# EAGLE library part LORA_RN (library Eagle_CAD_parts)
Low-Power, Long Range: LoRa® Technology Transceiver Module
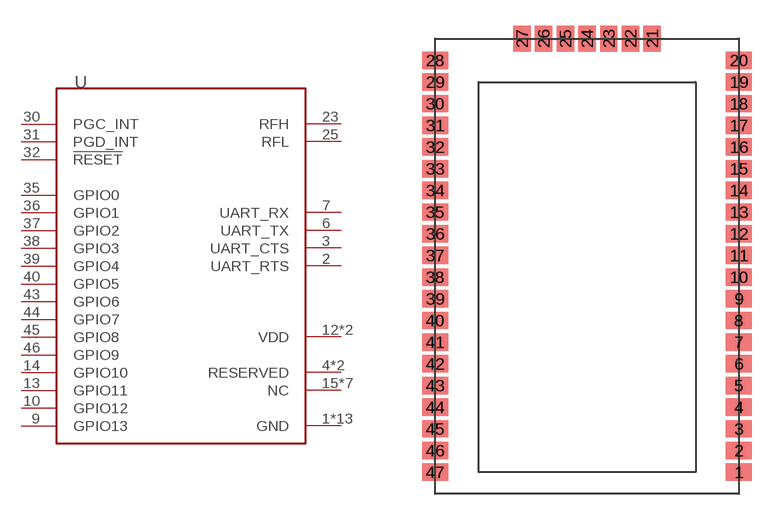
[diagram p78: symbol with the pads of RN_LORA; footprint RN_LORA]

Designator prefix U

## LORA_RN2903A-I/RM105 (DIGIKEY_PART_NUMBER: RN2903A-I/RM105-ND; FREQ: 902MHz~928MHz; MANUFACTURER_PART_NUMBER: RN2903A-I/RM105; VDD: 2.1V ~ 3.6V)  [RN_LORA]
1  GND
2  UART_RTS
3  UART_CTS
4  RESERVED
5  RESERVED
6  UART_TX
7  UART_RX
8  GND
9  GPIO13
10  GPIO12
11  GND
12  VDD
13  GPIO11
14  GPIO10
15  NC
16  NC
17  NC
18  NC
19  NC
20  GND
21  GND
22  GND
23  RFH
24  GND
25  RFL
26  GND
27  GND
28  GND
29  NC
30  PGC_INT
31  PGD_INT
32  !RESET
33  GND
34  VDD
35  GPIO0
36  GPIO1
37  GPIO2
38  GPIO3
39  GPIO4
40  GPIO5
41  GND
42  NC
43  GPIO6
44  GPIO7
45  GPIO8
46  GPIO9
47  GND

## LORA_RN2483A-I/RM105 (DIGIKEY_PART_NUMBER: RN2483A-I/RM105-ND; FREQ: 433.05MHz ~ 434.79MHz, 863MHz ~ 870MHz; MANUFACTURER_PART_NUMBER: RN2483A-I/RM105; VDD: 2.1V ~ 3.6V)  [RN_LORA]
Pads as for RN_LORA

## Footprint RN_LORA (pad centres in mm)
smd 1.524 x 1.016: 1 8.89,-11.43; 2 8.89,-10.16; 3 8.89,-8.89; 4 8.89,-7.62; 5 8.89,-6.35; 6 8.89,-5.08; 7 8.89,-3.81; 8 8.89,-2.54; 9 8.89,-1.27; 10 8.89,0; 11 8.89,1.27; 12 8.89,2.54; 13 8.89,3.81; 14 8.89,5.08; 15 8.89,6.35; 16 8.89,7.62; 17 8.89,8.89; 18 8.89,10.16; 19 8.89,11.43; 20 8.89,12.7; 28 -8.89,12.7; 29 -8.89,11.43; 30 -8.89,10.16; 31 -8.89,8.89; 32 -8.89,7.62; 33 -8.89,6.35; 34 -8.89,5.08; 35 -8.89,3.81; 36 -8.89,2.54; 37 -8.89,1.27; 38 -8.89,0; 39 -8.89,-1.27; 40 -8.89,-2.54; 41 -8.89,-3.81; 42 -8.89,-5.08; 43 -8.89,-6.35; 44 -8.89,-7.62; 45 -8.89,-8.89; 46 -8.89,-10.16; 47 -8.89,-11.43
smd 1.016 x 1.524: 21 3.81,13.97; 22 2.54,13.97; 23 1.27,13.97; 24 0,13.97; 25 -1.27,13.97; 26 -2.54,13.97; 27 -3.81,13.97